# Altium integrated library TACL106K010XTA.IntLib: 1 symbol
Pins are listed as number, name and electrical type; pins without a type are passive.

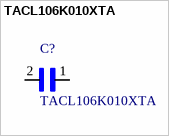
[diagram p0: symbol TACL106K010XTA]

## TACL106K010XTA
designator C?
Cap Tant Solid 10uF 10V L CASE 10% _1.6 X 0.85 X 0.85mm_ SMD 1608-10 7.5 Ohm 125Â°C Plastic T/R; MF: AVX; SnapEDA_Link: https://www.snapeda.com/parts/TACL106K010XTA/AVX%20/%20Kyocera/view-part/?ref=snap; Digi-Key_Purchase_URL: https://www.digikey.com/product-detail/en/avx-corporation/TACL106K010XTA/478-8775-1-ND/4556169?utm_source=snapeda&utm_medium=aggregator&utm_campaign=symbol; MP: TACL106K010XTA; Package: 0603 AVX; Digi-Key_Part_Number: 478-8775-1-ND; Value: *
footprint *CAPC1608X90
pins: 1, 2